# EAGLE library part IRXLMAXSONAR_MB2530 (library Sensors)
This is a library for MaxSonar sensors from Sparkfun Ultrasonic+IR Range Finder - IRXLMaxSonar - MB2530 SEN-16463 <https://www.sparkfun.com/products/16463> Resolution of 1cm 1.8Hz reading rate 25kHz Ultrasonic sensor measures distance to objects Read from all 3 sensor outputs: Analog Voltage, RS232 Serial, Pulse Width Operates from 2.7-5.5V Low 1.65mA average current requirement Virtually no sensor dead zone Maximum Range of 1650cm Small, light weight module RoHS Compliant * Datasheet <https://www.maxbotix.com/documents/IRXL-MaxSonar-CS_Datasheet.pdf>
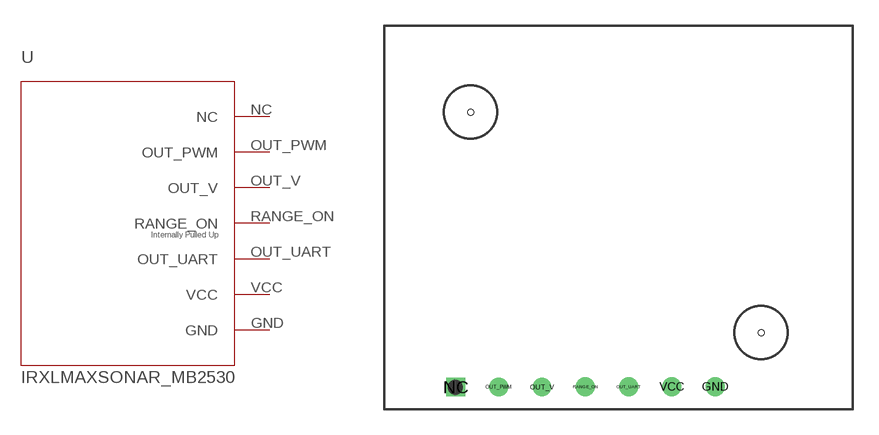
[diagram p0: symbol with the pads of MAXSONAR; footprint MAXSONAR]

Designator prefix U

## IRXLMAXSONAR_MB2530  [MAXSONAR]
GND  GND  pwr
NC  NC  nc
OUT_PWM  OUT_PWM  out
OUT_UART  OUT_UART  out
OUT_V  OUT_V  out
RANGE_ON  RANGE_ON  in
VCC  VCC  pwr

## Footprint MAXSONAR (pad centres in mm)
drill 0.6: GND 19.42,1.31; OUT_PWM 6.72,1.3; OUT_UART 14.34,1.31; OUT_V 9.26,1.3; RANGE_ON 11.8,1.31; VCC 16.88,1.31
drill 0.6 square: NC 4.2,1.3
hole 0.35 at 22.112,4.492
hole 0.35 at 5.075,17.409